# Altium footprint library 5123.28-1.PcbLib: 1 footprints
Each footprint in its own frame and in the unit in brackets; x right, y up, seen from the top. Pads: shape width x height; smd on the part's side, far side on the other; paste and mask are expansions set on the pad; w line width, h text height; cw(c..) or ccw(c..) is an arc to the next point about the centre after c.
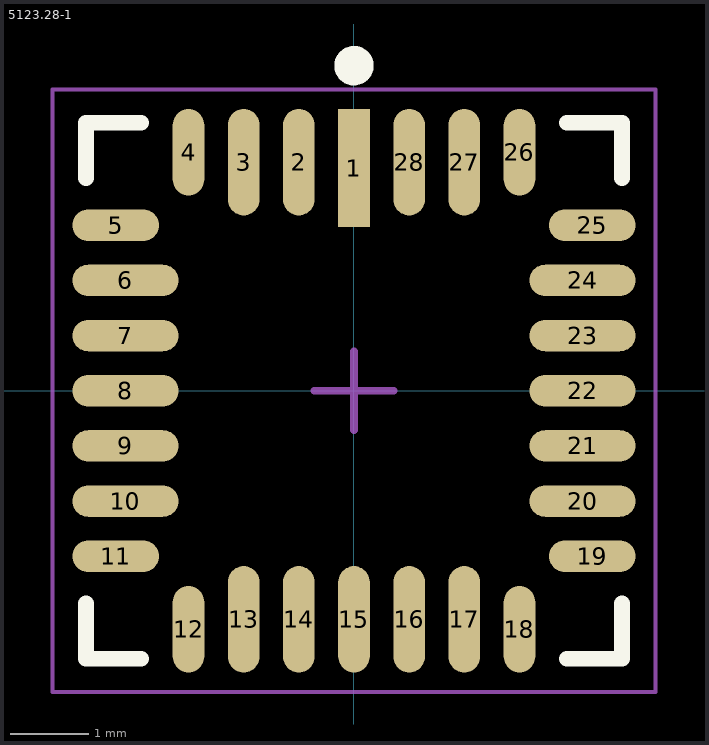
[diagram p0: the footprint, top view; thin cyan lines are the x and y axes]

## 5123.28-1 [mm] "QFN, 28-Leads, Body 6,50x6,50mm, Pitch 0,70mm, IPC Medium Density"
height 1.25
pads (28):
  rect 0.4x1.5 smd: 1(0,2.825)
  oval 0.4x1.35 smd: 2(-0.7,2.9) 3(-1.4,2.9) 13(-1.4,-2.9) 14(-0.7,-2.9) 15(0,-2.9) 16(0.7,-2.9) 17(1.4,-2.9) 27(1.4,2.9) 28(0.7,2.9)
  oval 0.4x1.1 smd: 4(-2.1,3.025) 12(-2.1,-3.025) 18(2.1,-3.025) 26(2.1,3.025)
  oval 1.1x0.4 smd: 5(-3.025,2.1) 11(-3.025,-2.1) 19(3.025,-2.1) 25(3.025,2.1)
  oval 1.35x0.4 smd: 6(-2.9,1.4) 7(-2.9,0.7) 8(-2.9,0) 9(-2.9,-0.7) 10(-2.9,-1.4) 20(2.9,-1.4) 21(2.9,-0.7) 22(2.9,0) 23(2.9,0.7) 24(2.9,1.4)
Top Overlay:
  circle w0.25: c0,4.125 r0.125
  lines w0.2: -3.4,-2.7 -3.4,-3.4 -2.7,-3.4 ; -3.4,2.7 -3.4,3.4 -2.7,3.4 ; 2.7,-3.4 3.4,-3.4 3.4,-2.7 ; 2.7,3.4 3.4,3.4 3.4,2.7
Mechanical 15:
  lines w0.05: -3.825,-3.825 3.825,-3.825 3.825,3.825 -3.825,3.825 -3.825,-3.825
  lines w0.1: -0.5,0 0.5,0 ; 0,-0.5 0,0.5
3D body "korpus_5123_28-1-01.stp": height 1.85, standoff 0, extent -3.25,-3.25 3.25,3.25